# Altium integrated library BK-6005.IntLib: 1 symbol
Pins are listed as number, name and electrical type; pins without a type are passive.

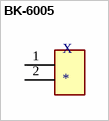
[diagram p0: symbol BK-6005]

## BK-6005
designator X
Fuse Clip 1 Circuit Cartridge Through Hole; MP: BK-6005; MF: MPD; Value: *; Package: Non-Standard MPD; Availability: Unavailable; Price: None; SnapEDA_Link: https://www.snapeda.com/parts/BK-6005/MPD/view-part/4614389/?ref=snap
footprint FUSE_BK-6005
pins: 1, 2 1